# EAGLE library part ILI9341_DISPLAY_SD_MODULE (library thermo)
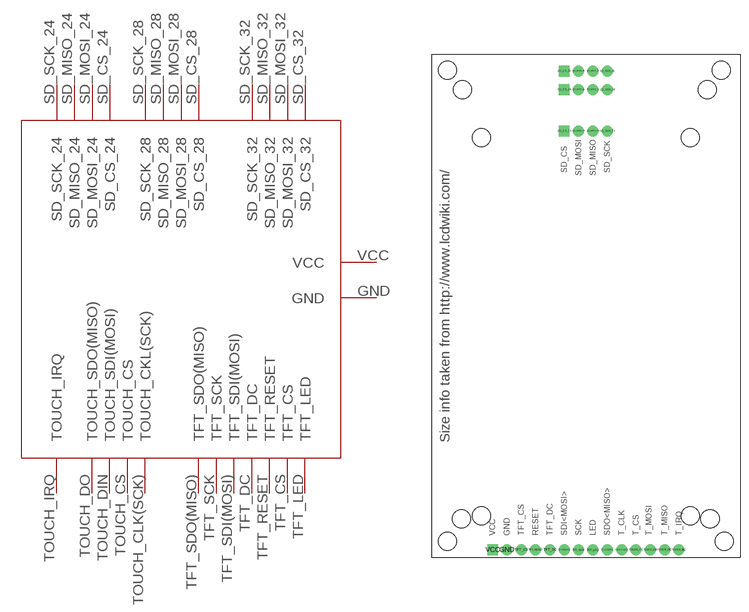
[diagram p1: symbol with the pads of ILI9341_DISPLAY_SD_MODULE; footprint ILI9341_DISPLAY_SD_MODULE]

Designator prefix -

## ILI9341_DISPLAY_SD_MODULE  [ILI9341_DISPLAY_SD_MODULE]
GND  GND
SD_CS_24  SD_CS_24
SD_CS_28  SD_CS_28
SD_CS_32  SD_CS_32
SD_MISO_24  SD_MISO_24
SD_MISO_28  SD_MISO_28
SD_MISO_32  SD_MISO_32
SD_MOSI_24  SD_MOSI_24
SD_MOSI_28  SD_MOSI_28
SD_MOSI_32  SD_MOSI_32
SD_SCK_24  SD_SCK_24
SD_SCK_28  SD_SCK_28
SD_SCK_32  SD_SCK_32
TFT_CS  TFT_CS
TFT_DC  TFT_DC
TFT_LED  TFT_LED
TFT_RESET  TFT_RESET
TFT_SCK  TFT_SCK
TFT_SDI(MOSI)  TFT_SDI(MOSI)
TFT_SDO(MISO)  TFT_SDO(MISO)
TOUCH_CLK(SCK)  TOUCH_CKL(SCK)
TOUCH_CS  TOUCH_CS
TOUCH_DIN  TOUCH_SDI(MOSI)
TOUCH_DO  TOUCH_SDO(MISO)
TOUCH_IRQ  TOUCH_IRQ
VCC  VCC

## Footprint ILI9341_DISPLAY_SD_MODULE (pad centres in mm)
drill 1 pad 1.93: GND -30.48,0; SD_MISO_24 -15.26,74.18; SD_MISO_28 -15.26,81.5; SD_MISO_32 -15.26,84.8; SD_MOSI_24 -17.8,74.18; SD_MOSI_28 -17.8,81.5; SD_MOSI_32 -17.8,84.8; SD_SCK_24 -12.72,74.18; SD_SCK_28 -12.72,81.5; SD_SCK_32 -12.72,84.8; TFT_CS -27.94,0; TFT_DC -22.86,0; TFT_LED -15.24,0; TFT_RESET -25.4,0; TFT_SCK -17.78,0; TFT_SDI(MOSI) -20.32,0; TFT_SDO(MISO) -12.7,0; TOUCH_CLK(SCK) -10.16,0; TOUCH_CS -7.62,0; TOUCH_DIN -5.08,0; TOUCH_DO -2.54,0; TOUCH_IRQ -0.02,0
drill 1 pad 1.93 square: SD_CS_24 -20.34,74.18; SD_CS_28 -20.34,81.5; SD_CS_32 -20.34,84.8; VCC -33,0
hole 3.2 at 8.01,1.5
hole 3.2 at -40.99,1.5
hole 3.2 at -40.99,85
hole 3.2 at 7.51,85
hole 3.2 at 4.99,81.5
hole 3.2 at -38.35,81.5
hole 3.2 at -38.5,5.5
hole 3.2 at 5.5,5.5
hole 3.2 at -35,6
hole 3.2 at 2,6
hole 3.2 at -35,73
hole 3.2 at 2,73